# EAGLE library part JLX12864G (library dragberry)
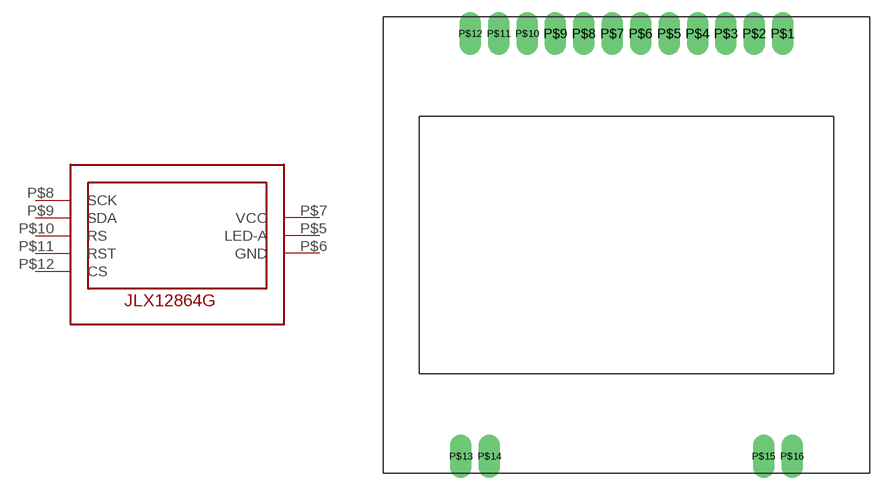
[diagram p3: symbol with the pads of JLX12864G; footprint JLX12864G]

Designator prefix HG

## JLX12864G  [JLX12864G]
P$5  LED-A
P$6  GND
P$7  VCC
P$8  SCK
P$9  SDA
P$10  RS
P$11  RST
P$12  CS

## Footprint JLX12864G (pad centres in mm)
drill 1.016 pad 1.93 long: P$1 13.97,18.9; P$2 11.43,18.9; P$3 8.89,18.9; P$4 6.35,18.9; P$5 3.81,18.9; P$6 1.27,18.9; P$7 -1.27,18.9; P$8 -3.81,18.9; P$9 -6.35,18.9; P$10 -8.89,18.9; P$11 -11.43,18.9; P$12 -13.97,18.9; P$13 -14.8,-18.9; P$14 -12.26,-18.9; P$15 12.26,-18.9; P$16 14.8,-18.9